# Altium schematic symbol library MODCMP-P056-M10X10_BGA.SchLib: 2 symbols
Pins are listed as number, name and electrical type; pins without a type are passive.

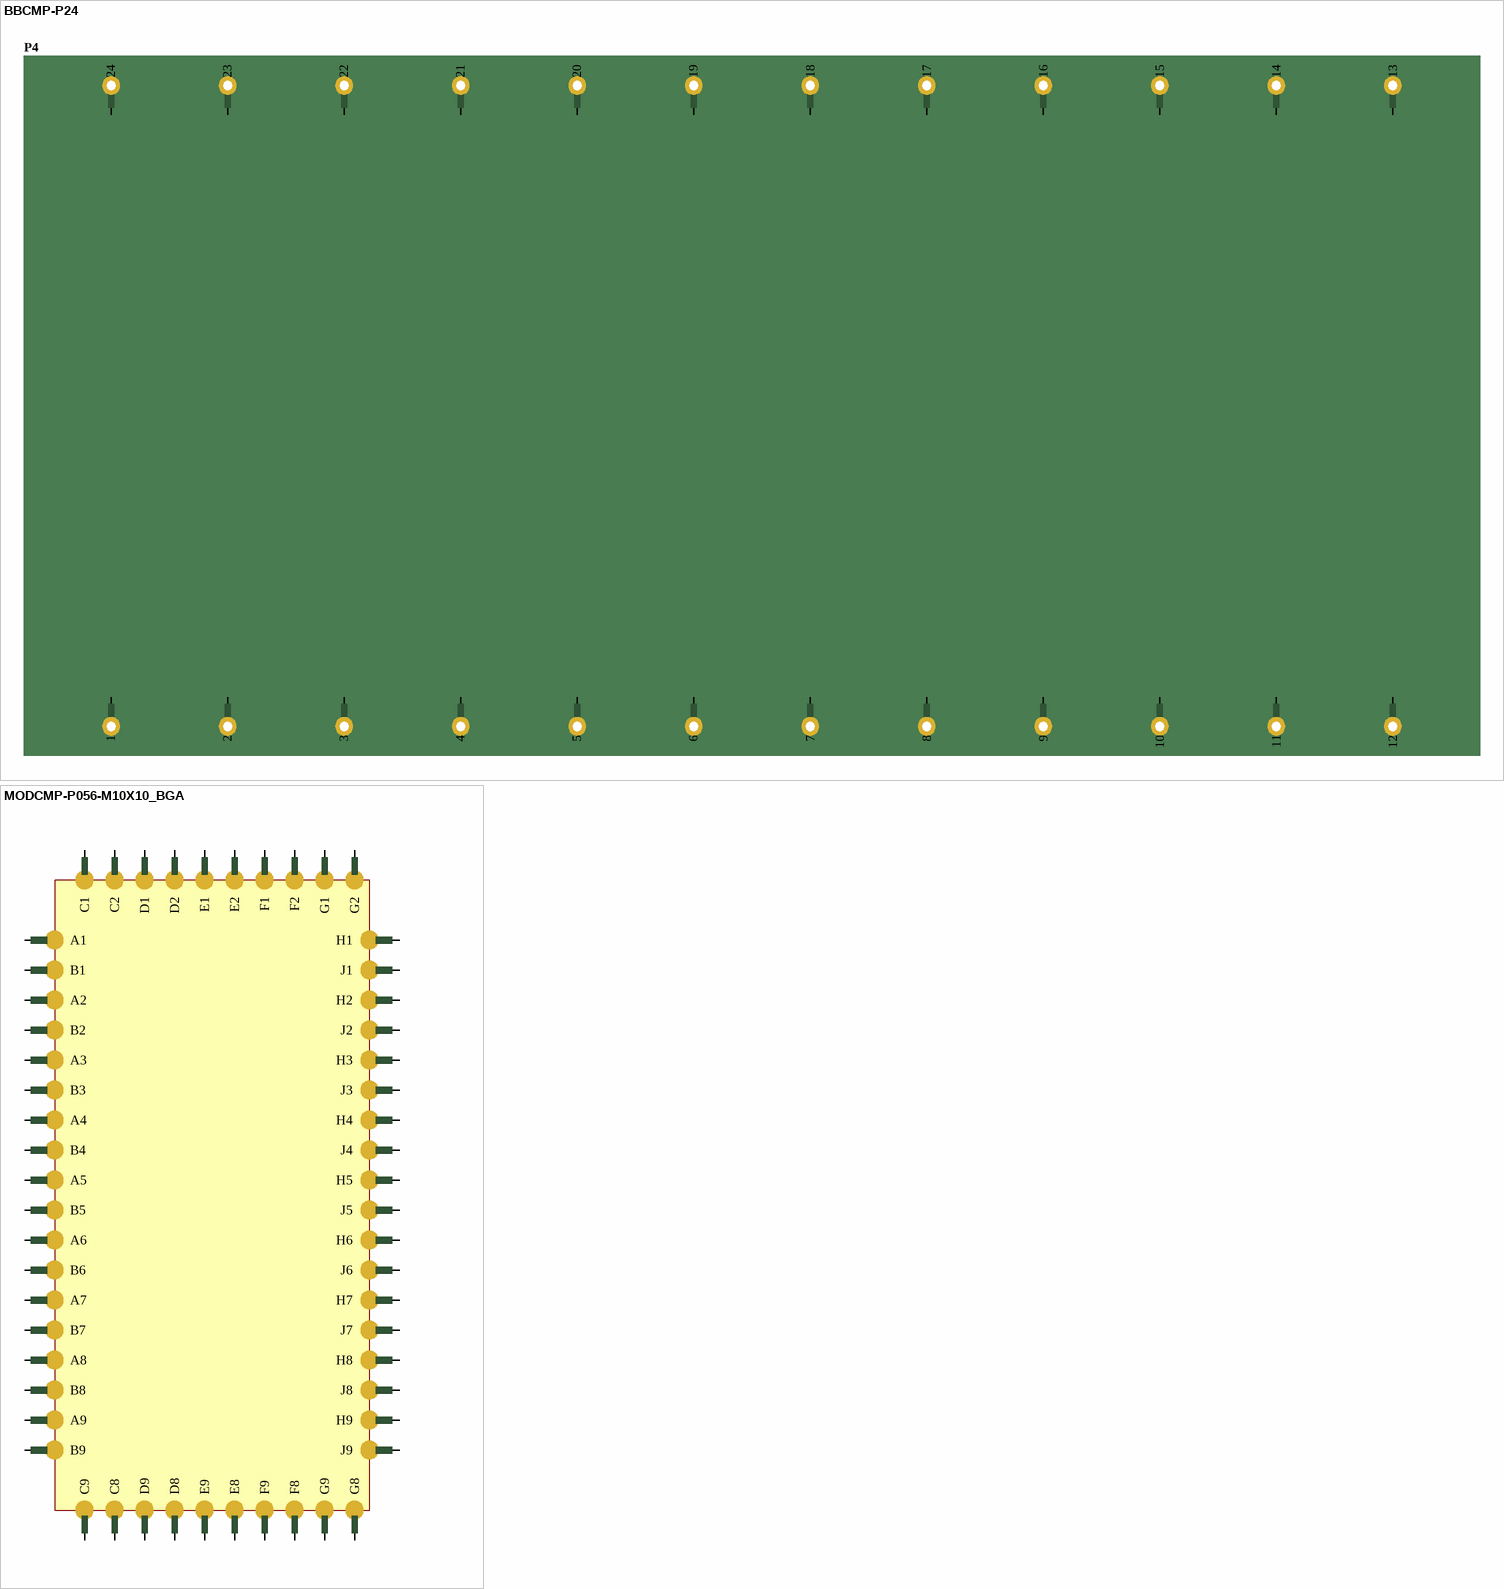
[diagram p0: symbols BBCMP-P24 to MODCMP-P056-M10X10_BGA]

## BBCMP-P24
designator P4, comment BBCMP-P24-M1200X700  (value not drawn)
ID: MOD-0100-0197; DefaultDesignator: P?; Class: Module; Sub Class: PCB - Module; Manufacturer_PN: BBCMP-P24-M1200x700
footprint BBCMP-P24-M1200X700
pins: 1, 2, 3, 4, 5, 6, 7, 8, 9, 10, 11, 12, 13, 14, 15, 16, 17, 18, 19, 20, 21, 22, 23, 24

## MODCMP-P056-M10X10_BGA
designator P5  (no BOM)
Module Component - 1mm Pitch, 56-Pin, 10mmX10mm; DefaultDesignator: P?; Sub Class: PCB - Module; ID: MOD-0100-0123; Class: Module; Manufacturer_PN: MODCMP-P056-M10X10
footprint MB2100.01.A.2 (Footprint not found)
pins: A1, A2, A3, A4, A5, A6, A7, A8, A9, B1, B2, B3, B4, B5, B6, B7, B8, B9, C1, C2, C8, C9, D1, D2, D8, D9, E1, E2, E8, E9, F1, F2, F8, F9, G1, G2, G8, G9, H1, H2, H3, H4, H5, H6, H7, H8, H9, J1, J2, J3, J4, J5, J6, J7, J8, J9